# Altium schematic symbol library Picoblade 8pin.SchLib: 1 symbol
Pins are listed as number, name and electrical type; pins without a type are passive.

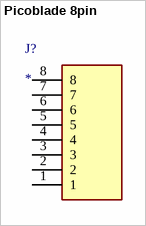
[diagram p0: symbol Picoblade 8pin]

## Picoblade 8pin
designator J?
Connector; Manufacturer_Name: Molex; Manufacturer_Part_Number: 0530470910; Datasheet Link: https://www.molex.com/pdm_docs/sd/530470910_sd.pdf; Height: 4.4mm; Arrow Part Number: 0530470910; Arrow Price/Stock: https://www.arrow.com/en/products/0530470910/molex
footprint 0530470910
pins: 1, 2, 3, 4, 5, 6, 7, 8